# Altium schematic symbol library 1N4148WS-7-F.SchLib: 2 symbols
Pins are listed as number, name and electrical type; pins without a type are passive.

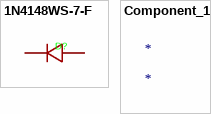
[diagram p0: symbols 1N4148WS-7-F to Component_1]

## 1N4148WS-7-F
designator D?  (value not drawn)
75V Independent Type 1.25V@150mA 4ns 150mA SOD-323 Switching Diodes ROHS; Manufacturer: DIODES(美台); Add into BOM: yes; Reverse Leakage Current: 1uA@75V; Symbol: 1N4148WS-7-F; Device: 1N4148WS-7-F; LCSC Part Name: 电压:75V 电流:150mA; Supplier Part: C60580; Manufacturer Part: 1N4148WS-7-F; Supplier Footprint: SOD-323; JLCPCB Part Class: Extended Part; Datasheet: https://atta.szlcsc.com/upload/public/pdf/source/20160107/1457707747110.pdf; Supplier: LCSC; Convert to PCB: yes; Diode Configuration: Independent Type; Forward Voltage (Vf@If): 1.25V@150mA; Operating Temperature: -65℃~+150℃@(Tj)
footprint SOD-323_L1.8-W1.3-LS2.5-RD
3D model SOD-323_L1.8-W1.3-LS2.5-RD
pins: 1 C, 2 A

## Component_1
designator *